# EAGLE library part WE-SL_4WINDING (library WE-SL)
WE-SL SMT Common Mode Line Filter Characteristics Two or four winding configuration Core material: NiZn/MnZn Rated voltage: 80 VDC (42 VAC) Flammability corresponding to UL 94 V-0 Climatic category 40/125/21 Applications Current compensated choke for data and signal lines Power supply system Signal and sensor lines Suppression of common mode noise ISDN-Bus <https://katalog.we-online.com/media/images/v2/o14850v209%20Family_WE-SL_7442017.jpg> Details see: http://katalog.we-online.de/en/pbs/WE-SL? Updated by Ella Wu 2020-08-05 2020 (C) Würth Elektronik
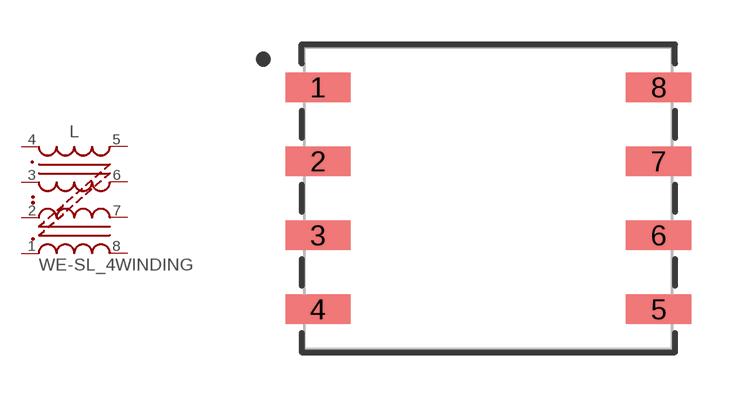
[diagram p0: symbol with the pads of WE-SL; footprint WE-SL]

Designator prefix L

## WE-SL_4WINDING_744201 (DATASHEET-URL: https://www.we-online.com/catalog/datasheet/744201.pdf; IR: 200mA; LS: 290nH; MOUNT: SMT; PART-NUMBER: 744201; RDC: 0.85Ohm; VALUE: 4700uH; VR: 80V; VT: 500 V (AC); ZMAX: 14000Ohm), WE-SL_4WINDING_744202 (DATASHEET-URL: https://www.we-online.com/catalog/datasheet/744202.pdf; IR: 350mA; LS: 170nH; MOUNT: SMT; PART-NUMBER: 744202; RDC: 0.4Ohm; VALUE: 1000uH; VR: 80V; VT: 500 V (AC); ZMAX: 5000Ohm), WE-SL_4WINDING_744203 (DATASHEET-URL: https://www.we-online.com/catalog/datasheet/744203.pdf; IR: 400mA; LS: 140nH; MOUNT: SMT; PART-NUMBER: 744203; RDC: 0.3Ohm; VALUE: 500uH; VR: 80V; VT: 500 V (AC); ZMAX: 3000Ohm), WE-SL_4WINDING_744204 (DATASHEET-URL: https://www.we-online.com/catalog/datasheet/744204.pdf; IR: 600mA; LS: 110nH; MOUNT: SMT; PART-NUMBER: 744204; RDC: 0.12Ohm; VALUE: 250uH; VR: 80V; VT: 500 V (AC); ZMAX: 1400Ohm), WE-SL_4WINDING_744205 (DATASHEET-URL: https://www.we-online.com/catalog/datasheet/744205.pdf; IR: 700mA; LS: 92nH; MOUNT: SMT; PART-NUMBER: 744205; RDC: 0.1Ohm; VALUE: 100uH; VR: 80V; VT: 500 V (AC); ZMAX: 900Ohm)  [WE-SL]
1  4  pas
2  3  pas
3  2  pas
4  1  pas
5  8  pas
6  7  pas
7  6  pas
8  5  pas

## Footprint WE-SL (pad centres in mm)
WE-SL SMT Common Mode Line Filter Size: WE-SL
smd 2.2 x 1: 1 -5.75,3.75; 2 -5.75,1.25; 3 -5.75,-1.25; 4 -5.75,-3.75; 5 5.75,-3.75; 6 5.75,-1.25; 7 5.75,1.25; 8 5.75,3.75